# Altium footprint library KEYPADDD.PcbLib: 2 footprints
Each footprint in its own frame and in the unit in brackets; x right, y up, seen from the top. Pads: shape width x height; smd on the part's side, far side on the other; paste and mask are expansions set on the pad; w line width, h text height; cw(c..) or ccw(c..) is an arc to the next point about the centre after c.
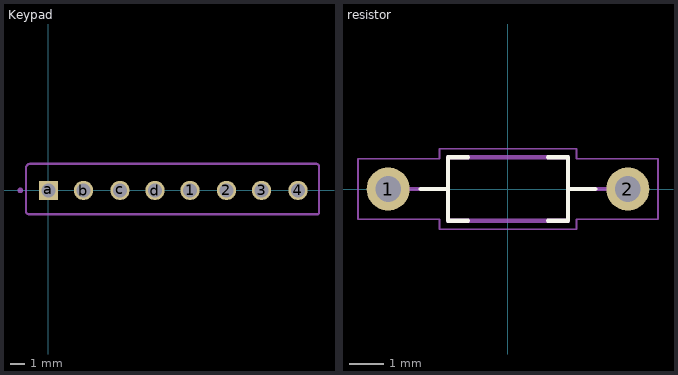
[diagram p0: the footprints below, top view; thin cyan lines are the x and y axes]

## Keypad [mm]
pads (8):
  round 1.37 hole 1.02: 1(10.1,0) 2(12.7,0) 3(15.2,0) 4(17.8,0) b(2.5,0) c(5.1,0) d(7.6,0)
  rect 1.37x1.37 hole 1.02: a(0,0)
Mechanical 13:
  circle w0.2: c-2,0 r0.1
  lines w0.15: -1.6,-1.5 ccw(c-1.4,-1.5) -1.4,-1.7 19.2,-1.7 ccw(c19.2,-1.6) 19.3,-1.6 19.3,1.7 ccw(c19.1,1.7) 19.1,1.9 -1.3,1.9 ccw(c-1.3,1.6) -1.6,1.6 -1.6,-1.5
3D body "User Library-PinHeader_1x8.STEP": height 8, standoff -3.5, extent -1.13,-1.25 18.9,1.25

## resistor [mm]
pads (2):
  round 1.258 hole 0.75: 1(-3.5,0) 2(3.5,0)
Top Overlay:
  lines w0.127: -2.55,0 -1.75,0 ; -1.17,-0.925 -1.75,-0.925 -1.75,0 ; -1.17,0.925 -1.75,0.925 -1.75,0 ; 1.17,-0.925 1.75,-0.925 1.75,0 ; 1.17,0.925 1.75,0.925 1.75,0 ; 2.55,0 1.75,0
Mechanical 13:
  lines w0.127: -2.925,0 -1.75,0 ; 2.925,0 1.75,0 ; -1.75,0 -1.75,-0.925 1.75,-0.925 1.75,0 ; -1.75,0 -1.75,0.925 1.75,0.925 1.75,0
Mechanical 15:
  lines w0.05: -4.38,-0.88 -2,-0.88 -2,-1.175 2,-1.175 2,-0.88 4.38,-0.88 4.38,0.88 2,0.88 2,1.175 -2,1.175 -2,0.88 -4.38,0.88 -4.38,-0.88
3D body "CircuitWorks-RESISTOR 7_62MM DIP.STEP": height 2, standoff -1.99, extent -4.1,-1 4,1